# Altium footprint library 2.54排针排母.PcbLib: 65 footprints (part 5 of 5)
Each footprint in its own frame and in the unit in brackets; x right, y up, seen from the top. Pads: shape width x height; smd on the part's side, far side on the other; paste and mask are expansions set on the pad; w line width, h text height; cw(c..) or ccw(c..) is an arc to the next point about the centre after c.
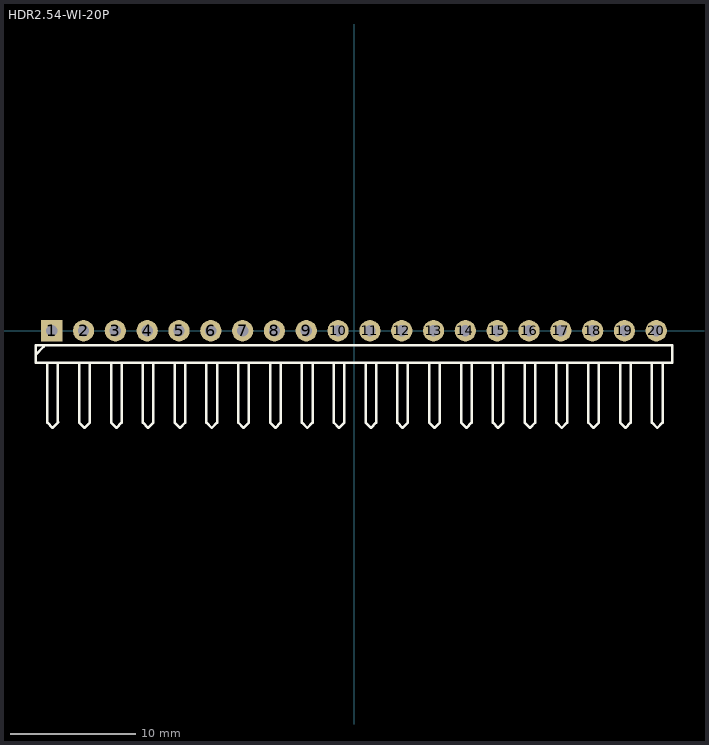
[diagram p4: the footprint, top view; thin cyan lines are the x and y axes]

## HDR2.54-WI-20P [mm] "弯脚排针，20脚"
pads (20):
  rect 1.7x1.7 hole 0.9: 1(-24.13,0)
  round 1.7 hole 0.9: 2(-21.59,0) 3(-19.05,0) 4(-16.51,0) 5(-13.97,0) 6(-11.43,0) 7(-8.89,0) 8(-6.35,0) 9(-3.81,0) 10(-1.27,0) 11(1.27,0) 12(3.81,0) 13(6.35,0) 14(8.89,0) 15(11.43,0) 16(13.97,0) 17(16.51,0) 18(19.05,0) 19(21.59,0) 20(24.13,0)
Top Overlay:
  lines w0.2: -25.4,-1.905 -24.765,-1.27 ; -24.478,-2.54 -24.478,-7.332 -24.055,-7.755 -23.631,-7.332 -23.622,-7.323 ; -23.631,-7.323 -23.631,-2.54 ; -21.938,-2.54 -21.938,-7.332 -21.515,-7.755 -21.091,-7.332 ; -21.091,-7.323 -21.091,-2.54 ; -19.398,-2.54 -19.398,-7.332 -18.975,-7.755 -18.551,-7.332 ; -18.551,-7.323 -18.551,-2.54 ; -16.858,-2.54 -16.858,-7.332 -16.435,-7.755 -16.011,-7.332 ; -16.011,-7.323 -16.011,-2.54 ; -14.318,-2.54 -14.318,-7.332 -13.895,-7.755 -13.471,-7.332 ; -13.471,-7.323 -13.471,-2.54 ; -11.778,-2.54 -11.778,-7.332 -11.355,-7.755 -10.931,-7.332 ; -10.931,-7.323 -10.931,-2.54 ; -9.238,-2.54 -9.238,-7.332 -8.815,-7.755 -8.391,-7.332 ; -8.391,-7.323 -8.391,-2.54 ; -6.698,-2.54 -6.698,-7.332 -6.275,-7.755 -5.851,-7.332 ; -5.851,-7.323 -5.851,-2.54 ; -4.158,-2.54 -4.158,-7.332 -3.735,-7.755 -3.311,-7.332 ; -3.311,-7.323 -3.311,-2.54 ; -1.618,-2.54 -1.618,-7.332 -1.195,-7.755 -0.771,-7.332 ; -0.771,-7.323 -0.771,-2.54 ; 0.922,-2.54 0.922,-7.332 1.345,-7.755 1.769,-7.332 ; 1.769,-7.323 1.769,-2.54 ; 3.462,-2.54 3.462,-7.332 3.885,-7.755 4.309,-7.332 ; 4.309,-7.323 4.309,-2.54 ; 6.002,-2.54 6.002,-7.332 6.425,-7.755 6.849,-7.332 ; 6.849,-7.323 6.849,-2.54 ; 8.542,-2.54 8.542,-7.332 8.965,-7.755 9.389,-7.332 ; 9.389,-7.323 9.389,-2.54 ; 11.082,-2.54 11.082,-7.332 11.505,-7.755 11.929,-7.332 ; 11.929,-7.323 11.929,-2.54 ; 13.622,-2.54 13.622,-7.332 14.045,-7.755 14.469,-7.332 ; 14.469,-7.323 14.469,-2.54 ; 16.162,-2.54 16.162,-7.332 16.585,-7.755 17.009,-7.332 ; 17.009,-7.323 17.009,-2.54 ; 18.702,-2.54 18.702,-7.332 19.125,-7.755 19.549,-7.332 ; 19.549,-7.323 19.549,-2.54 ; 21.242,-2.54 21.242,-7.332 21.665,-7.755 22.089,-7.332 ; 22.089,-7.323 22.089,-2.54 ; 23.782,-2.54 23.782,-7.332 24.205,-7.755 24.629,-7.332 ; 24.629,-7.323 24.629,-2.54 ; -25.4,-2.54 -25.4,-1.143 -23.622,-1.143 25.4,-1.143 25.4,-2.54 -25.4,-2.54
3D body "HDR2.54-1P_H.STEP": height 4.85, standoff -3, extent -25.4,-7.77 -22.86,1.27
3D body "HDR2.54-1P_H.STEP": height 4.85, standoff -3, extent -22.86,-7.77 -20.32,1.27
3D body "HDR2.54-1P_H.STEP": height 4.85, standoff -3, extent -20.32,-7.77 -17.78,1.27
3D body "HDR2.54-1P_H.STEP": height 4.85, standoff -3, extent -17.78,-7.77 -15.24,1.27
3D body "HDR2.54-1P_H.STEP": height 4.85, standoff -3, extent -15.24,-7.77 -12.7,1.27
3D body "HDR2.54-1P_H.STEP": height 4.85, standoff -3, extent -12.7,-7.77 -10.16,1.27
3D body "HDR2.54-1P_H.STEP": height 4.85, standoff -3, extent -10.16,-7.77 -7.62,1.27
3D body "HDR2.54-1P_H.STEP": height 4.85, standoff -3, extent -7.62,-7.77 -5.08,1.27
3D body "HDR2.54-1P_H.STEP": height 4.85, standoff -3, extent -5.08,-7.77 -2.54,1.27
3D body "HDR2.54-1P_H.STEP": height 4.85, standoff -3, extent -2.54,-7.77 0,1.27
3D body "HDR2.54-1P_H.STEP": height 4.85, standoff -3, extent 0,-7.77 2.54,1.27
3D body "HDR2.54-1P_H.STEP": height 4.85, standoff -3, extent 2.54,-7.77 5.08,1.27
3D body "HDR2.54-1P_H.STEP": height 4.85, standoff -3, extent 5.08,-7.77 7.62,1.27
3D body "HDR2.54-1P_H.STEP": height 4.85, standoff -3, extent 7.62,-7.77 10.16,1.27
3D body "HDR2.54-1P_H.STEP": height 4.85, standoff -3, extent 10.16,-7.77 12.7,1.27
3D body "HDR2.54-1P_H.STEP": height 4.85, standoff -3, extent 12.7,-7.77 15.24,1.27
3D body "HDR2.54-1P_H.STEP": height 4.85, standoff -3, extent 15.24,-7.77 17.78,1.27
3D body "HDR2.54-1P_H.STEP": height 4.85, standoff -3, extent 17.78,-7.77 20.32,1.27
3D body "HDR2.54-1P_H.STEP": height 4.85, standoff -3, extent 20.32,-7.77 22.86,1.27
3D body "HDR2.54-1P_H.STEP": height 4.85, standoff -3, extent 22.86,-7.77 25.4,1.27